# EAGLE library part ADM4073* (library NewSDR)
Analog Devices High Side Current Sense Amplifier
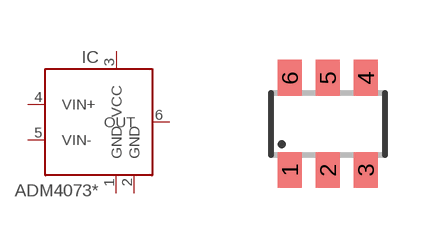
[diagram p155: symbol with the pads of SOT23-6; footprint SOT23-6]

Designator prefix IC

## ADM4073FWRJZ (GAIN: 50), ADM4073HWRJZ (GAIN: 100), ADM4073TWRJZ (GAIN: 20)  [SOT23-6]
1  GND  pwr
2  GND  pwr
3  VCC  pwr
4  VIN+  in
5  VIN-  in
6  OUT  out

## Footprint SOT23-6 (pad centres in mm)
Small Outline Transistor 6 lead
smd 0.6 x 0.9: 1 -0.95,-1.15; 2 0,-1.15; 3 0.95,-1.15; 4 0.95,1.15; 5 0,1.15; 6 -0.95,1.15